# EAGLE library part CMLT5078E (library MDB_HOME)
DUAL COMPLEMENTARY: L78 TRANSISTORS ENHANCED SPECIFICATION PICOmini(TM) SURFACE MOUNT Source: CMLT5078%20SERIES.pdf
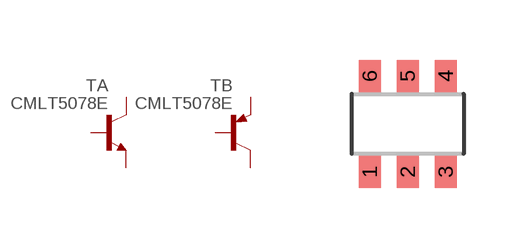
[diagram p6: symbol with the pads of SOT457R_PHILIPS; footprint SOT457R_PHILIPS]

Designator prefix T; gates A=NPN B=PNP

## CMLT5078E_2  [SOT457R_PHILIPS]
1  A:E  pas
2  A:B  pas
3  B:C  pas
4  B:E  pas
5  B:B  pas
6  A:C  pas

## Footprint SOT457R_PHILIPS (pad centres in mm)
Small Outline Transistor; 6 leads SOT457 (SC-74) FOOTPRINT (REFLOW SOLDERING) Philips Semiconductors, sot457-(sc-74)-reflow-wave.pdf
smd 0.55 x 0.8: 1 -0.95,-1.2; 2 0,-1.2; 3 0.95,-1.2; 4 0.95,1.2; 5 0,1.2; 6 -0.95,1.2